# EAGLE library part LT3751 (library RoboJackets-ICs)
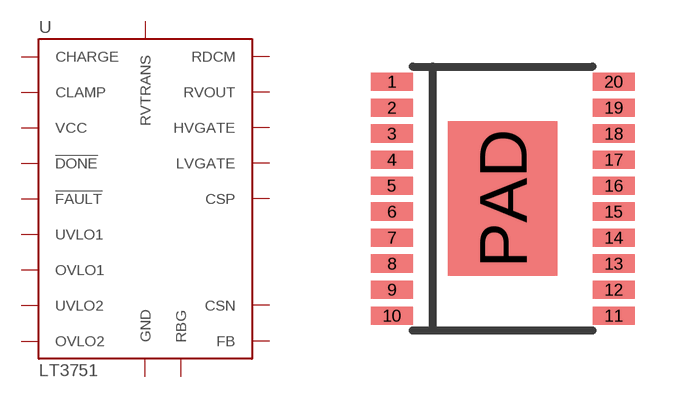
[diagram p23: symbol with the pads of TSSOP-20_EP; footprint TSSOP-20_EP]

Designator prefix U

## LT3751FE  [TSSOP-20_EP]
1  RVTRANS
2  UVLO1
3  OVLO1
4  UVLO2
5  OVLO2
6  !FAULT
7  !DONE
8  CHARGE
9  CLAMP
10  FB
11  CSN
12  CSP
13  VCC
14  LVGATE
15  HVGATE
16  RBG
18  RVOUT
20  RDCM
PAD  GND

## Footprint TSSOP-20_EP (pad centres in mm)
smd 1.05 x 0.45: 1 -2.775,2.925; 2 -2.775,2.275; 3 -2.775,1.625; 4 -2.775,0.975; 5 -2.775,0.325; 6 -2.775,-0.325; 7 -2.775,-0.975; 8 -2.775,-1.625; 9 -2.775,-2.275; 10 -2.775,-2.925; 11 2.775,-2.925; 12 2.775,-2.275; 13 2.775,-1.625; 14 2.775,-0.975; 15 2.775,-0.325; 16 2.775,0.325; 17 2.775,0.975; 18 2.775,1.625; 19 2.775,2.275; 20 2.775,2.925
smd 2.74 x 3.86: PAD 0,0